# Altium footprint library RFID_RC552.PcbLib: 1 footprints
Each footprint in its own frame and in the unit in brackets; x right, y up, seen from the top. Pads: shape width x height; smd on the part's side, far side on the other; paste and mask are expansions set on the pad; w line width, h text height; cw(c..) or ccw(c..) is an arc to the next point about the centre after c.
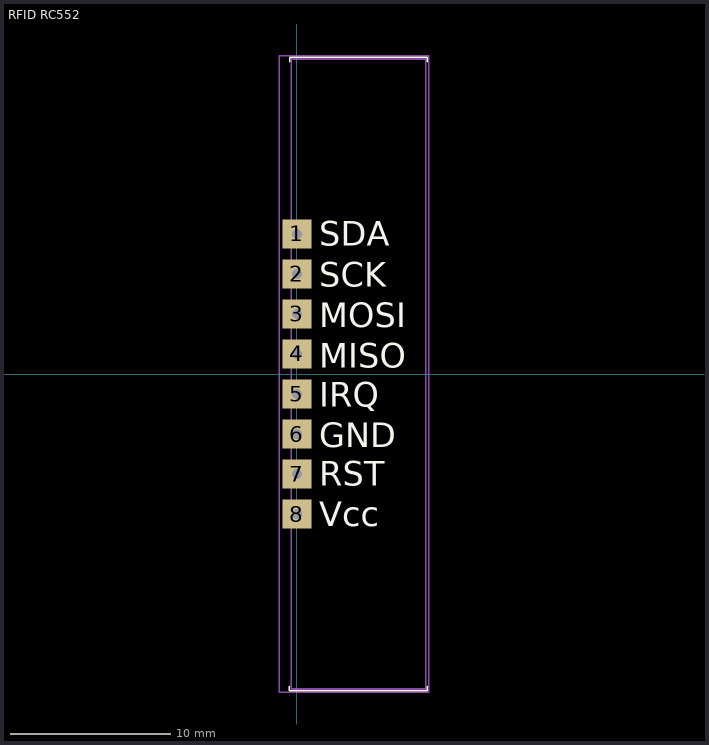
[diagram p0: the footprint, top view; thin cyan lines are the x and y axes]

## RFID RC552 [mm] "8 pin module"
height 10
pads (8):
  rect 1.8x1.8 hole 0.61 square: 1(0,8.75) 2(0,6.25) 3(0,3.75) 4(0,1.25) 5(0,-1.25) 6(0,-3.75) 7(0,-6.25) 8(0,-8.75)
Top Overlay:
  lines w0.1: -0.475,-19.5 -0.475,-19.775 8.15,-19.775 8.15,-19.5 ; -0.45,19.5 -0.45,19.775 8.15,19.775 8.15,19.5
  text "GND" at 1.397,-4.572 h1.52
  text "RST" at 1.397,-6.985 h1.52
  text "MOSI" at 1.397,2.921 h1.52
  text "SDA" at 1.397,8.001 h1.52
  text "IRQ" at 1.397,-2.032 h1.52
  text "Vcc" at 1.397,-9.525 h1.52
  text "SCK" at 1.397,5.461 h1.52
  text "MISO" at 1.404,0.404 h1.52
Top Courtyard:
  lines w0.1: -1.1,-19.875 -1.1,19.875 8.225,19.875 8.225,-19.875 -1.1,-19.875
Top Assembly:
  lines w0.1: -0.35,-19.675 -0.35,19.675 8.05,19.675 8.05,-19.675 -0.35,-19.675
3D body "Part1.STEP": height 59.93, standoff -5.54, extent -0.3,-19.616 8,19.616